# EAGLE library part G2RL-2-DC5 (library HyTechDevices)
Omron G2RL-2 Double Pull Double Throw Relay Coil Voltage: 5VDC (3.5-7.5VDC @60ºC) Contact Amperage: 8A at 30VDC Datasheet <https://www.omron.com/ecb/products/pdf/en-g2rl.pdf>
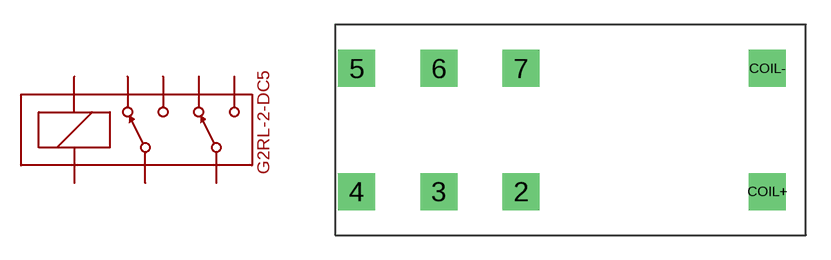
[diagram p53: symbol with the pads of G2RL-2; footprint G2RL-2]

Designator prefix -

## G2RL-2-DC5  [G2RL-2]
2  2
3  3
4  4
5  5
6  6
7  7
COIL+  COIL+
COIL-  COIL-

## Footprint G2RL-2 (pad centres in mm)
drill 1.5 square: 2 10.008,0; 3 5.004,0; 4 0,0; 5 0,7.493; 6 5.004,7.493; 7 10.008,7.493; COIL+ 25.019,0; COIL- 25.019,7.493